# Altium schematic symbol library NCP1402SN33T1G.SchLib: 1 symbol
Pins are listed as number, name and electrical type; pins without a type are passive.

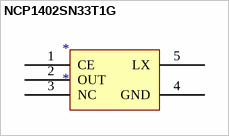
[diagram p0: symbol NCP1402SN33T1G]

## NCP1402SN33T1G
designator *
NCP1402SN33T1G
pins: 1 CE, 2 OUT, 3 NC, 4 GND, 5 LX